# Altium schematic symbol library BMP180.Schlib: 1 symbol
Pins are listed as number, name and electrical type; pins without a type are passive.

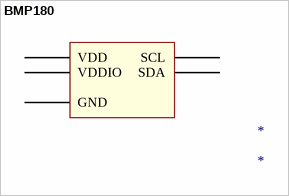
[diagram p0: symbol BMP180]

## BMP180
designator *
BMP180 Bosch pressure sensor
pins: GND, SCL, SDA, VDD, VDDIO